# Altium schematic symbol library SCH - MCU - NUVOTON - NUVOTON NUC122ZD2AN.SchLib: 1 symbol
Pins are listed as number, name and electrical type; pins without a type are passive.

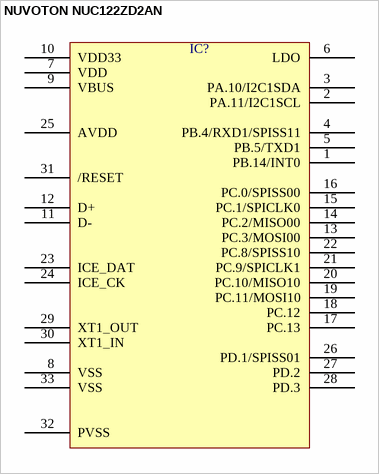
[diagram p0: symbol NUVOTON NUC122ZD2AN]

## NUVOTON NUC122ZD2AN
designator IC?  (value not drawn)
pins: 1 PB.14/INT0, 2 PA.11/I2C1SCL, 3 PA.10/I2C1SDA, 4 PB.4/RXD1/SPISS11, 5 PB.5/TXD1, 6 LDO, 7 VDD, 8 VSS, 9 VBUS, 10 VDD33, 11 D-, 12 D+, 13 PC.3/MOSI00, 14 PC.2/MISO00, 15 PC.1/SPICLK0, 16 PC.0/SPISS00, 17 PC.13, 18 PC.12, 19 PC.11/MOSI10, 20 PC.10/MISO10, 21 PC.9/SPICLK1, 22 PC.8/SPISS10, 23 ICE_DAT, 24 ICE_CK, 25 AVDD, 26 PD.1/SPISS01, 27 PD.2, 28 PD.3, 29 XT1_OUT, 30 XT1_IN, 31 /RESET, 32 PVSS, 33 VSS